# EAGLE library part 691412120016 (library Wurth_Elektronik_Electromechanic_Terminal_Blocks_Connectors_rev16b)
WR-TBL Serie 412 - 3.5mm Screwless 45° Entry Grey - 1.5mm2 Wires, 16 Pins
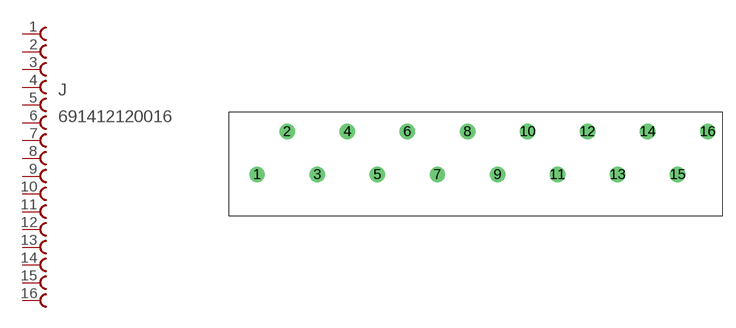
[diagram p203: symbol with the pads of 691412120016; footprint 691412120016]

Designator prefix J

## 691412120016  [691412120016]
1  1  pas
2  2  pas
3  3  pas
4  4  pas
5  5  pas
6  6  pas
7  7  pas
8  8  pas
9  9  pas
10  10  pas
11  11  pas
12  12  pas
13  13  pas
14  14  pas
15  15  pas
16  16  pas

## Footprint 691412120016 (pad centres in mm)
WR-TBL Serie 412 - 3.5mm Screwless 45° Entry Grey - 1.5mm2 Wires, 16 Pins
drill 1.2: 1 -48.97,0; 2 -45.47,5; 3 -41.97,0; 4 -38.47,5; 5 -34.97,0; 6 -31.47,5; 7 -27.97,0; 8 -24.47,5; 9 -20.97,0; 10 -17.47,5; 11 -14,0; 12 -10.5,5; 13 -7,0; 14 -3.5,5; 15 0,0; 16 3.5,5